# Altium integrated library Transistors_custom.IntLib: 2 symbols
Pins are listed as number, name and electrical type; pins without a type are passive.

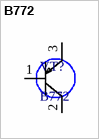
[diagram p0: symbol B772]

## B772
designator VT?
footprint PCBComponent_1
pins: 1 B, 2 C, 3 E


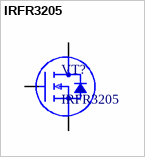
[diagram p1: symbol IRFR3205]

## IRFR3205
designator VT?
footprint TO-220(bend2)
pins: 1 G, 2 D, 3 S